# Altium schematic symbol library INDUCTOR.SchLib: 2 symbols
Pins are listed as number, name and electrical type; pins without a type are passive.

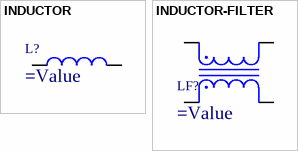
[diagram p0: symbols INDUCTOR to INDUCTOR-FILTER]

## INDUCTOR
designator L?
=Description
pins: 1, 2

## INDUCTOR-FILTER
designator LF?
=Description
pins: 1, 2, 3, 4